# EAGLE library part LX7167ACLD-TR (library IC)
IC REG BUCK ADJUSTABLE 2.4A 8DFN Manufacturer's datasheet <https://ww1.microchip.com/downloads/en/DeviceDoc/LX7167_Rev1.1.pdf>
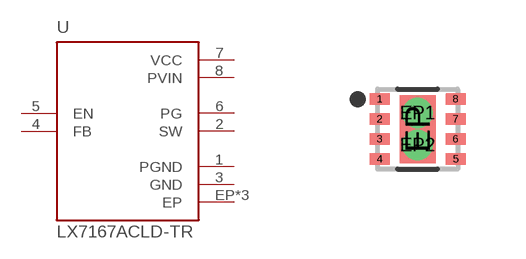
[diagram p37: symbol with the pads of 8-WFDFN; footprint 8-WFDFN]

Designator prefix -

## LX7167ACLD-TR (CREATED_BY: PCBLayout.com; DIGIKEY_PARTNO: LX7167ACLD-TRDKR-ND; MF: Microchip Technology; MPN: LX7167ACLD-TR; PACKAGE: 8-wfdfn)  [8-WFDFN]
1  PGND  pwr
2  SW  out
3  GND  pwr
4  FB  in
5  EN  in
6  PG  out
7  VCC  pwr
8  PVIN  pwr
EP  EP  pwr
EP1  EP  pwr
EP2  EP  pwr

## Footprint 8-WFDFN (pad centres in mm)
smd 0.5 x 0.28: 1 -0.95,0.75; 2 -0.95,0.25; 3 -0.95,-0.25; 4 -0.95,-0.75; 5 0.95,-0.75; 6 0.95,-0.25; 7 0.95,0.25; 8 0.95,0.75
smd 0.9 x 1.7: EP 0,0
drill 0.25 pad 0.6: EP1 0,0.4; EP2 0,-0.4